# Altium schematic symbol library ADV7180.SchLib: 1 symbol
Pins are listed as number, name and electrical type; pins without a type are passive.

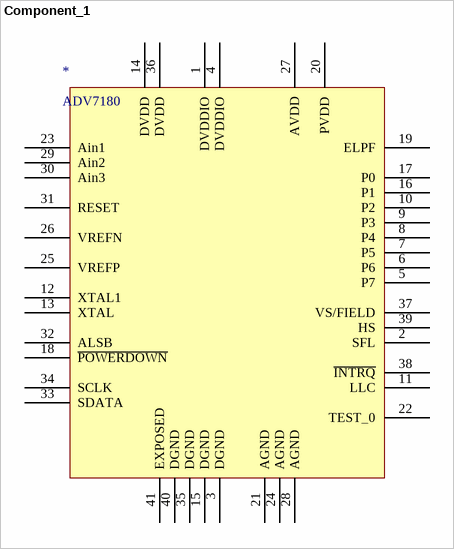
[diagram p0: symbol Component_1]

## Component_1
designator *, comment ADV7180
pins: 1 DVDDIO, 2 SFL, 3 DGND, 4 DVDDIO, 5 P7, 6 P6, 7 P5, 8 P4, 9 P3, 10 P2, 11 LLC, 12 XTAL1, 13 XTAL, 14 DVDD, 15 DGND, 16 P1, 17 P0, 18 ~{POWERDOWN}, 19 ELPF, 20 PVDD, 21 AGND, 22 TEST_0, 23 Ain1, 24 AGND, 25 VREFP, 26 VREFN, 27 AVDD, 28 AGND, 29 Ain2, 30 Ain3, 31 RESET, 32 ALSB, 33 SDATA, 34 SCLK, 35 DGND, 36 DVDD, 37 VS/FIELD, 38 ~{INTRQ}, 39 HS, 40 DGND, 41 EXPOSED